# Altium footprint library Microcircuits.PcbLib: 5 footprints
Each footprint in its own frame and in the unit in brackets; x right, y up, seen from the top. Pads: shape width x height; smd on the part's side, far side on the other; paste and mask are expansions set on the pad; w line width, h text height; cw(c..) or ccw(c..) is an arc to the next point about the centre after c.
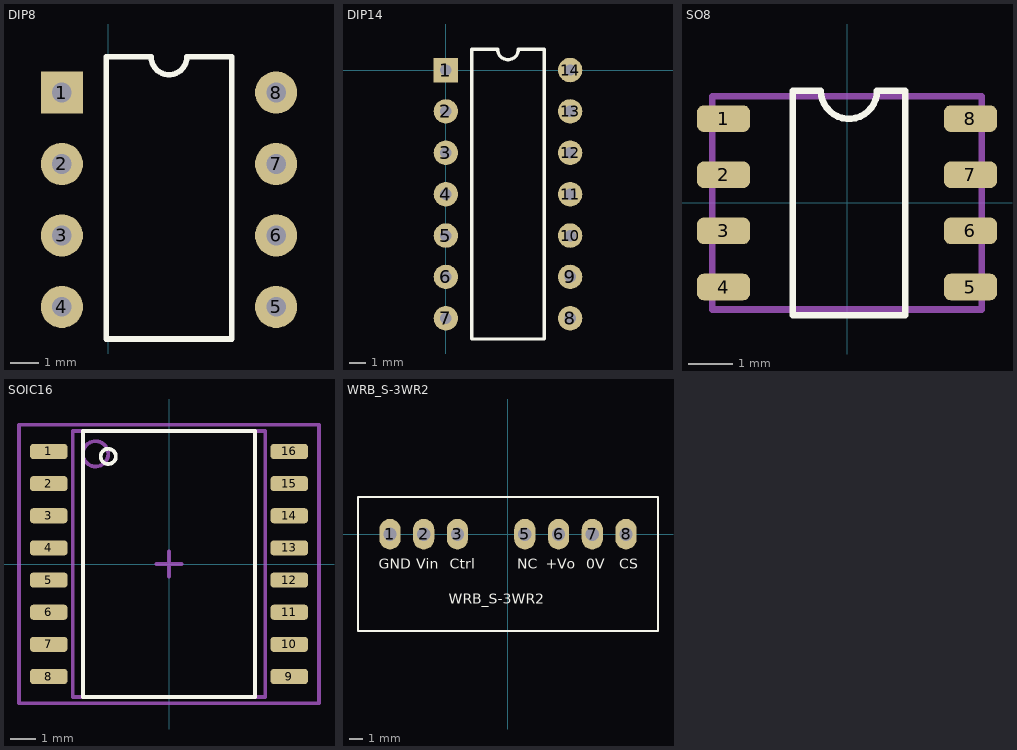
[diagram p0: the footprints below, top view; thin cyan lines are the x and y axes]

## DIP8 [mm]
pads (8):
  rect 1.5x1.5 hole 0.7: 1(-1.651,16.51)
  round 1.5 hole 0.7: 2(-1.651,13.97) 3(-1.651,11.43) 4(-1.651,8.89) 5(5.969,8.89) 6(5.969,11.43) 7(5.969,13.97) 8(5.969,16.51)
Top Overlay:
  lines w0.2: -0.066,7.747 -0.066,17.78 1.524,17.78 ccw(c2.159,17.78) 2.794,17.78 4.384,17.78 4.384,7.747 -0.066,7.747
3D body "dip-8.step": height 4.2, standoff -2, extent -1.801,7.6 6.119,17.8

## DIP14 [mm]
pads (14):
  rect 1.5x1.5 hole 0.7: 1(0,0)
  round 1.5 hole 0.7: 2(0,-2.54) 3(0,-5.08) 4(0,-7.62) 5(0,-10.16) 6(0,-12.7) 7(0,-15.24) 8(7.62,-15.24) 9(7.62,-12.7) 10(7.62,-10.16) 11(7.62,-7.62) 12(7.62,-5.08) 13(7.62,-2.54) 14(7.62,0)
Top Overlay:
  lines w0.2: 1.585,-16.51 6.035,-16.51 6.035,1.27 4.445,1.27 cw(c3.81,1.27) 3.175,1.27 1.585,1.27 1.585,-16.51

## SO8 [mm]
pads (8):
  rrect50% 1.2x0.6 smd: 1(-2.794,1.905) 2(-2.794,0.635) 3(-2.794,-0.635) 4(-2.794,-1.905) 5(2.794,-1.905) 6(2.794,-0.635) 7(2.794,0.635) 8(2.794,1.905)
Top Overlay:
  lines w0.15: -1.226,-2.545 -1.226,2.535 -0.591,2.535 ccw(c0.044,2.535) 0.679,2.535 1.314,2.535 1.314,-2.545 -1.226,-2.545
  text "." at -2.7,2.8 h0.1
Top Courtyard:
  lines w0.15: -3.048,-2.413 -3.048,2.413 3.048,2.413 3.048,-2.413 -3.048,-2.413
3D body "User Library-so8-4.STEP": height 1.76, standoff 0, extent -3.068,-2.445 3.068,2.445

## SOIC16 [mm]
pads (16):
  rrect50% 1.5x0.6 smd: 1(-4.75,4.445) 2(-4.75,3.175) 3(-4.75,1.905) 4(-4.75,0.635) 5(-4.75,-0.635) 6(-4.75,-1.905) 7(-4.75,-3.175) 8(-4.75,-4.445) 9(4.75,-4.445) 10(4.75,-3.175) 11(4.75,-1.905) 12(4.75,-0.635) 13(4.75,0.635) 14(4.75,1.905) 15(4.75,3.175) 16(4.75,4.445)
Top Overlay:
  circle w0.15: c-2.4,4.25 r0.3
  lines w0.15: -3.4,-5.25 3.4,-5.25 3.4,5.25 -3.4,5.25 -3.4,-5.25
  text "." at -5.5,5.4 h0.1
Top Courtyard:
  lines w0.15: -0.5,0 0.5,0 ; 0,-0.5 0,0.5 ; -5.925,-5.5 5.925,-5.5 5.925,5.5 -5.925,5.5 -5.925,-5.5
Mechanical 13:
  circle w0.15: c-2.9,4.35 r0.5
  lines w0.15: -3.8,-5.25 3.8,-5.25 3.8,5.25 -3.8,5.25 -3.8,-5.25
3D body "SOIC16W.step": height 2.65, standoff 0, extent -5.162,-5.25 5.162,5.25

## WRB_S-3WR2 [mm]
pads (7):
  oval 1.6x2.3 hole 1: 1(-8.89,0) 2(-6.35,0) 3(-3.81,0) 5(1.27,0) 6(3.81,0) 7(6.35,0) 8(8.89,0)
Top Overlay:
  lines w0.127: -11.3,-7.3 11.3,-7.3 11.3,2.8 -11.3,2.8 -11.3,-7.3
  text "NC" at 0.686,-2.608 h0.76
  text "Ctrl" at -4.381,-2.608 h0.76
  text "Vin" at -6.921,-2.608 h0.76
  text "WRB_S-3WR2" at -4.455,-5.232 h0.76
  text "GND" at -9.728,-2.608 h0.76
  text "0V" at 5.911,-2.608 h0.76
  text "CS" at 8.377,-2.608 h0.76
  text "+Vo" at 2.848,-2.608 h0.76
3D body "WRA_S-3WR2.stp": height 12, standoff -4.1, extent -11,-6.909 11,2.591